# Altium schematic symbol library IvanConnectors.SchLib: 24 symbols
Pins are listed as number, name and electrical type; pins without a type are passive.

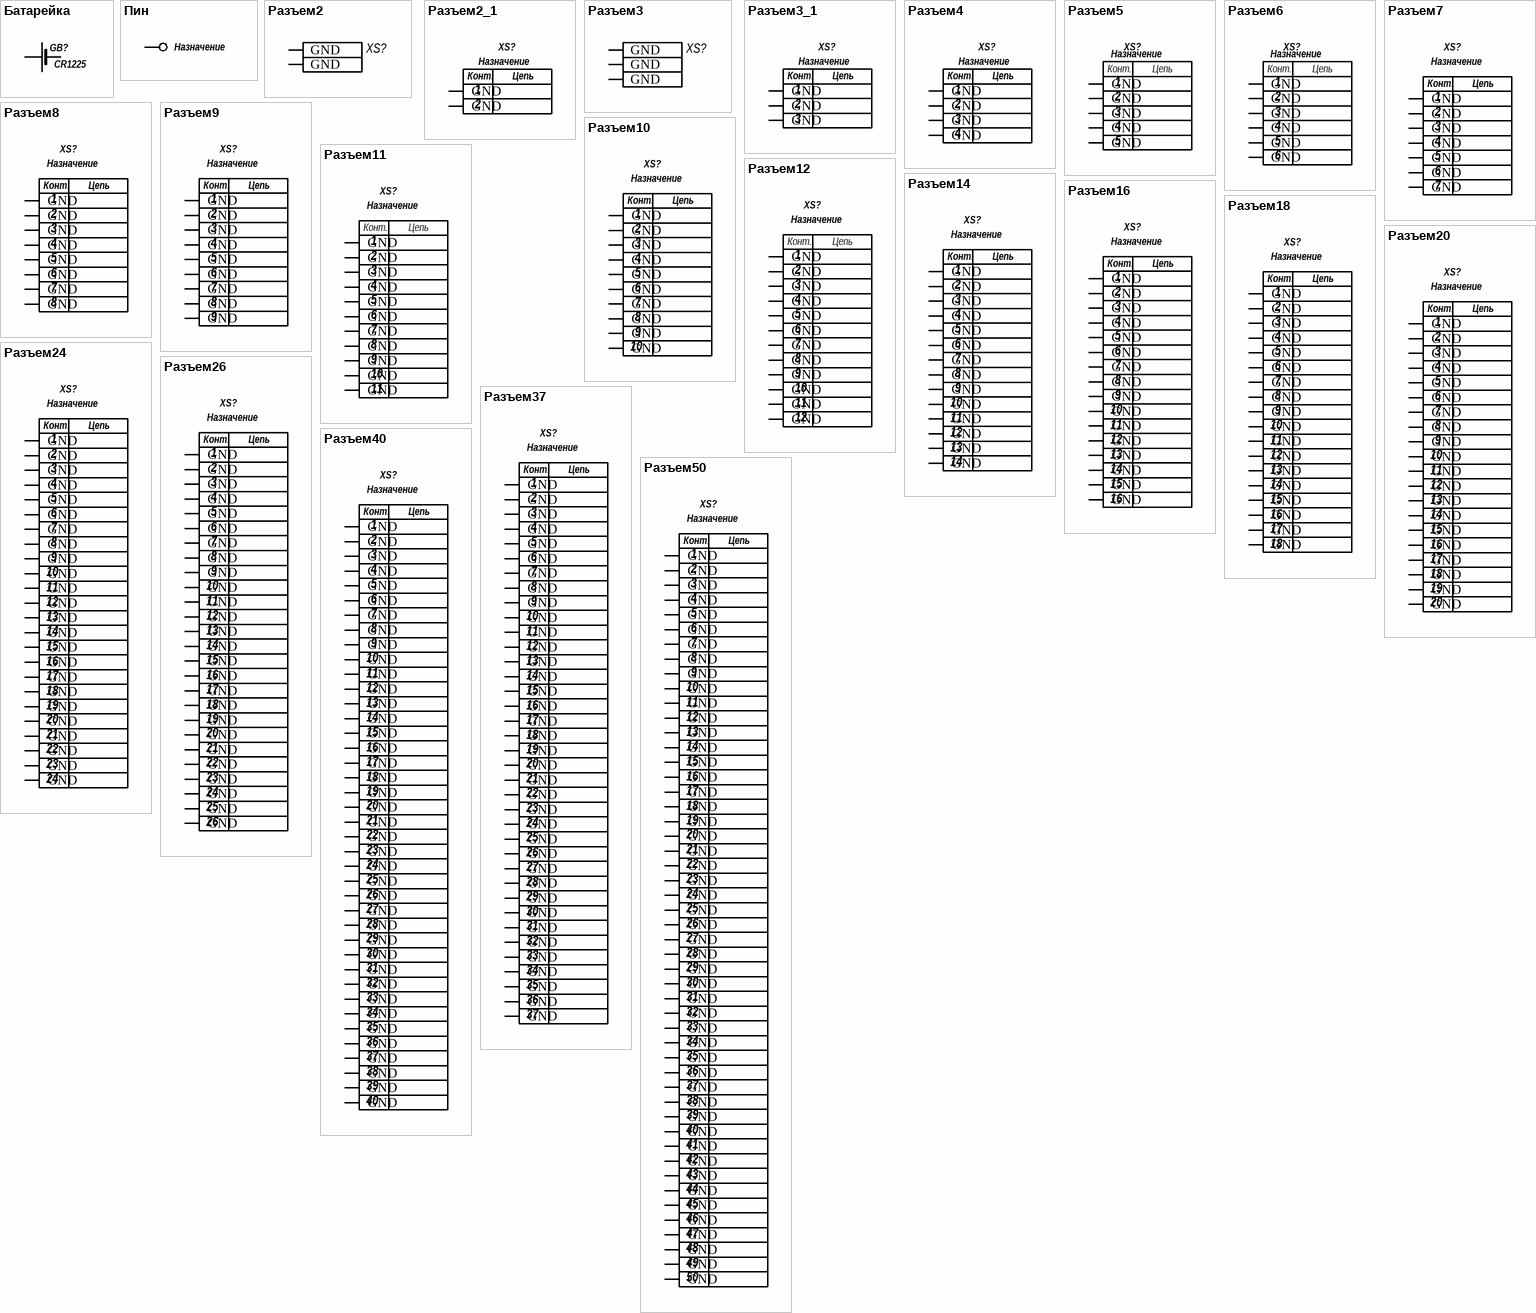
[diagram p0: symbols Батарейка to Разъем50]

## Батарейка
designator GB?, comment CR1225
Батарейный отсек; Тип монтажа: Выводной; Номинал: CR1225; Тип компонента: Батарейный отсек
pins: 1, 2

## Пин
designator *?, comment Назначение
Отверстие под пайку провода
footprint PIN
footprint PIN15
pins: 1

## Разъем2
designator XS?, comment Назначение  (value not drawn)
Разъем
pins: 1 GND, 2 GND

## Разъем2_1
designator XS?, comment Назначение
Разъем
pins: 1 GND, 2 GND
text: Конт.; Цепь

## Разъем3
designator XS?, comment Назначение  (value not drawn)
Разъем
pins: 1 GND, 2 GND, 3 GND

## Разъем3_1
designator XS?, comment Назначение
Разъем
pins: 1 GND, 2 GND, 3 GND
text: Конт.; Цепь

## Разъем4
designator XS?, comment Назначение
Разъем
pins: 1 GND, 2 GND, 3 GND, 4 GND
text: Конт.; Цепь

## Разъем5
designator XS?, comment Назначение
Разъем
footprint IDC254_1X5
pins: 1 GND, 2 GND, 3 GND, 4 GND, 5 GND
text: Конт.; Цепь

## Разъем6
designator XS?, comment Назначение
Разъем
pins: 1 GND, 2 GND, 3 GND, 4 GND, 5 GND, 6 GND
text: Конт.; Цепь

## Разъем7
designator XS?, comment Назначение
Разъем
pins: 1 GND, 2 GND, 3 GND, 4 GND, 5 GND, 6 GND, 7 GND
text: Конт.; Цепь

## Разъем8
designator XS?, comment Назначение
Разъем
pins: 1 GND, 2 GND, 3 GND, 4 GND, 5 GND, 6 GND, 7 GND, 8 GND
text: Конт.; Цепь

## Разъем9
designator XS?, comment Назначение
Разъем
pins: 1 GND, 2 GND, 3 GND, 4 GND, 5 GND, 6 GND, 7 GND, 8 GND, 9 GND
text: Конт.; Цепь

## Разъем10
designator XS?, comment Назначение
Разъем
footprint IDC254_1x11
pins: 1 GND, 2 GND, 3 GND, 4 GND, 5 GND, 6 GND, 7 GND, 8 GND, 9 GND, 10 GND
text: Конт.; Цепь

## Разъем11
designator XS?, comment Назначение
Разъем
footprint IDC254_1x11
pins: 1 GND, 2 GND, 3 GND, 4 GND, 5 GND, 6 GND, 7 GND, 8 GND, 9 GND, 10 GND, 11 GND
text: Конт.; Цепь

## Разъем12
designator XS?, comment Назначение
Разъем
pins: 1 GND, 2 GND, 3 GND, 4 GND, 5 GND, 6 GND, 7 GND, 8 GND, 9 GND, 10 GND, 11 GND, 12 GND
text: Конт.; Цепь

## Разъем14
designator XS?, comment Назначение
Разъем
pins: 1 GND, 2 GND, 3 GND, 4 GND, 5 GND, 6 GND, 7 GND, 8 GND, 9 GND, 10 GND, 11 GND, 12 GND, 13 GND, 14 GND
text: Конт.; Цепь

## Разъем16
designator XS?, comment Назначение
Разъем
pins: 1 GND, 2 GND, 3 GND, 4 GND, 5 GND, 6 GND, 7 GND, 8 GND, 9 GND, 10 GND, 11 GND, 12 GND, 13 GND, 14 GND, 15 GND, 16 GND
text: Конт.; Цепь

## Разъем18
designator XS?, comment Назначение
Разъем
pins: 1 GND, 2 GND, 3 GND, 4 GND, 5 GND, 6 GND, 7 GND, 8 GND, 9 GND, 10 GND, 11 GND, 12 GND, 13 GND, 14 GND, 15 GND, 16 GND, 17 GND, 18 GND
text: Конт.; Цепь

## Разъем20
designator XS?, comment Назначение
Разъем
pins: 1 GND, 2 GND, 3 GND, 4 GND, 5 GND, 6 GND, 7 GND, 8 GND, 9 GND, 10 GND, 11 GND, 12 GND, 13 GND, 14 GND, 15 GND, 16 GND, 17 GND, 18 GND, 19 GND, 20 GND
text: Конт.; Цепь

## Разъем24
designator XS?, comment Назначение
Разъем
pins: 1 GND, 2 GND, 3 GND, 4 GND, 5 GND, 6 GND, 7 GND, 8 GND, 9 GND, 10 GND, 11 GND, 12 GND, 13 GND, 14 GND, 15 GND, 16 GND, 17 GND, 18 GND, 19 GND, 20 GND, 21 GND, 22 GND, 23 GND, 24 GND
text: Конт.; Цепь

## Разъем26
designator XS?, comment Назначение
Разъем
pins: 1 GND, 2 GND, 3 GND, 4 GND, 5 GND, 6 GND, 7 GND, 8 GND, 9 GND, 10 GND, 11 GND, 12 GND, 13 GND, 14 GND, 15 GND, 16 GND, 17 GND, 18 GND, 19 GND, 20 GND, 21 GND, 22 GND, 23 GND, 24 GND, 25 GND, 26 GND
text: Конт.; Цепь

## Разъем37
designator XS?, comment Назначение
Разъем
pins: 1 GND, 2 GND, 3 GND, 4 GND, 5 GND, 6 GND, 7 GND, 8 GND, 9 GND, 10 GND, 11 GND, 12 GND, 13 GND, 14 GND, 15 GND, 16 GND, 17 GND, 18 GND, 19 GND, 20 GND, 21 GND, 22 GND, 23 GND, 24 GND, 25 GND, 26 GND, 27 GND, 28 GND, 29 GND, 30 GND, 31 GND, 32 GND, 33 GND, 34 GND, 35 GND, 36 GND, 37 GND
text: Конт.; Цепь

## Разъем40
designator XS?, comment Назначение
Разъем
pins: 1 GND, 2 GND, 3 GND, 4 GND, 5 GND, 6 GND, 7 GND, 8 GND, 9 GND, 10 GND, 11 GND, 12 GND, 13 GND, 14 GND, 15 GND, 16 GND, 17 GND, 18 GND, 19 GND, 20 GND, 21 GND, 22 GND, 23 GND, 24 GND, 25 GND, 26 GND, 27 GND, 28 GND, 29 GND, 30 GND, 31 GND, 32 GND, 33 GND, 34 GND, 35 GND, 36 GND, 37 GND, 38 GND, 39 GND, 40 GND
text: Конт.; Цепь

## Разъем50
designator XS?, comment Назначение
Разъем
pins: 1 GND, 2 GND, 3 GND, 4 GND, 5 GND, 6 GND, 7 GND, 8 GND, 9 GND, 10 GND, 11 GND, 12 GND, 13 GND, 14 GND, 15 GND, 16 GND, 17 GND, 18 GND, 19 GND, 20 GND, 21 GND, 22 GND, 23 GND, 24 GND, 25 GND, 26 GND, 27 GND, 28 GND, 29 GND, 30 GND, 31 GND, 32 GND, 33 GND, 34 GND, 35 GND, 36 GND, 37 GND, 38 GND, 39 GND, 40 GND, 41 GND, 42 GND, 43 GND, 44 GND, 45 GND, 46 GND, 47 GND, 48 GND, 49 GND, 50 GND
text: Конт.; Цепь